# Altium integrated library con-amp-te.IntLib: 7 symbols
Pins are listed as number, name and electrical type; pins without a type are passive.

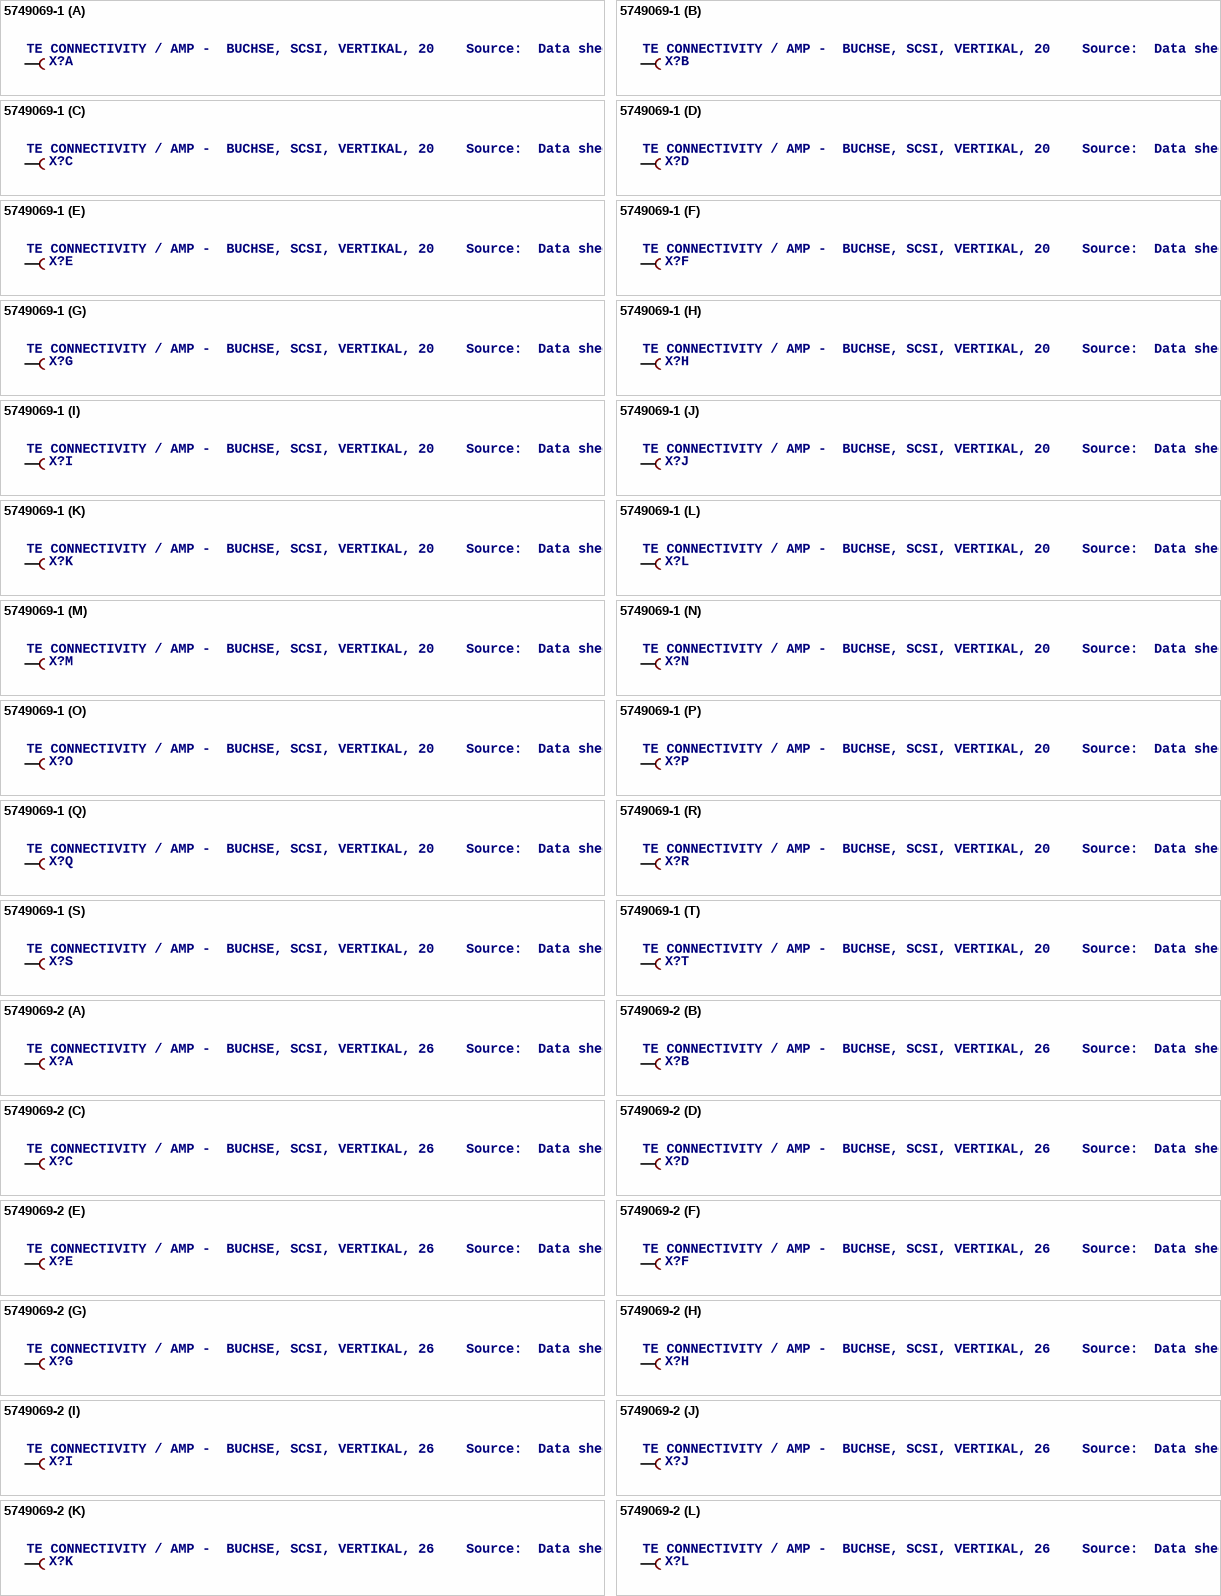
[diagram p0: symbols 5749069-1 to 5749069-2]

## 5749069-1
designator X?, comment TE CONNECTIVITY / AMP -  BUCHSE, SCSI, VERTIKAL, 20    Source:  Data sheet
footprint 5749069-1
part A pins: 1 F
part B pins: 2 F
part C pins: 3 F
part D pins: 4 F
part E pins: 5 F
part F pins: 6 F
part G pins: 7 F
part H pins: 8 F
part I pins: 9 F
part J pins: 10 F
part K pins: 11 F
part L pins: 12 F
part M pins: 13 F
part N pins: 14 F
part O pins: 15 F
part P pins: 16 F
part Q pins: 17 F
part R pins: 18 F
part S pins: 19 F
part T pins: 20 F

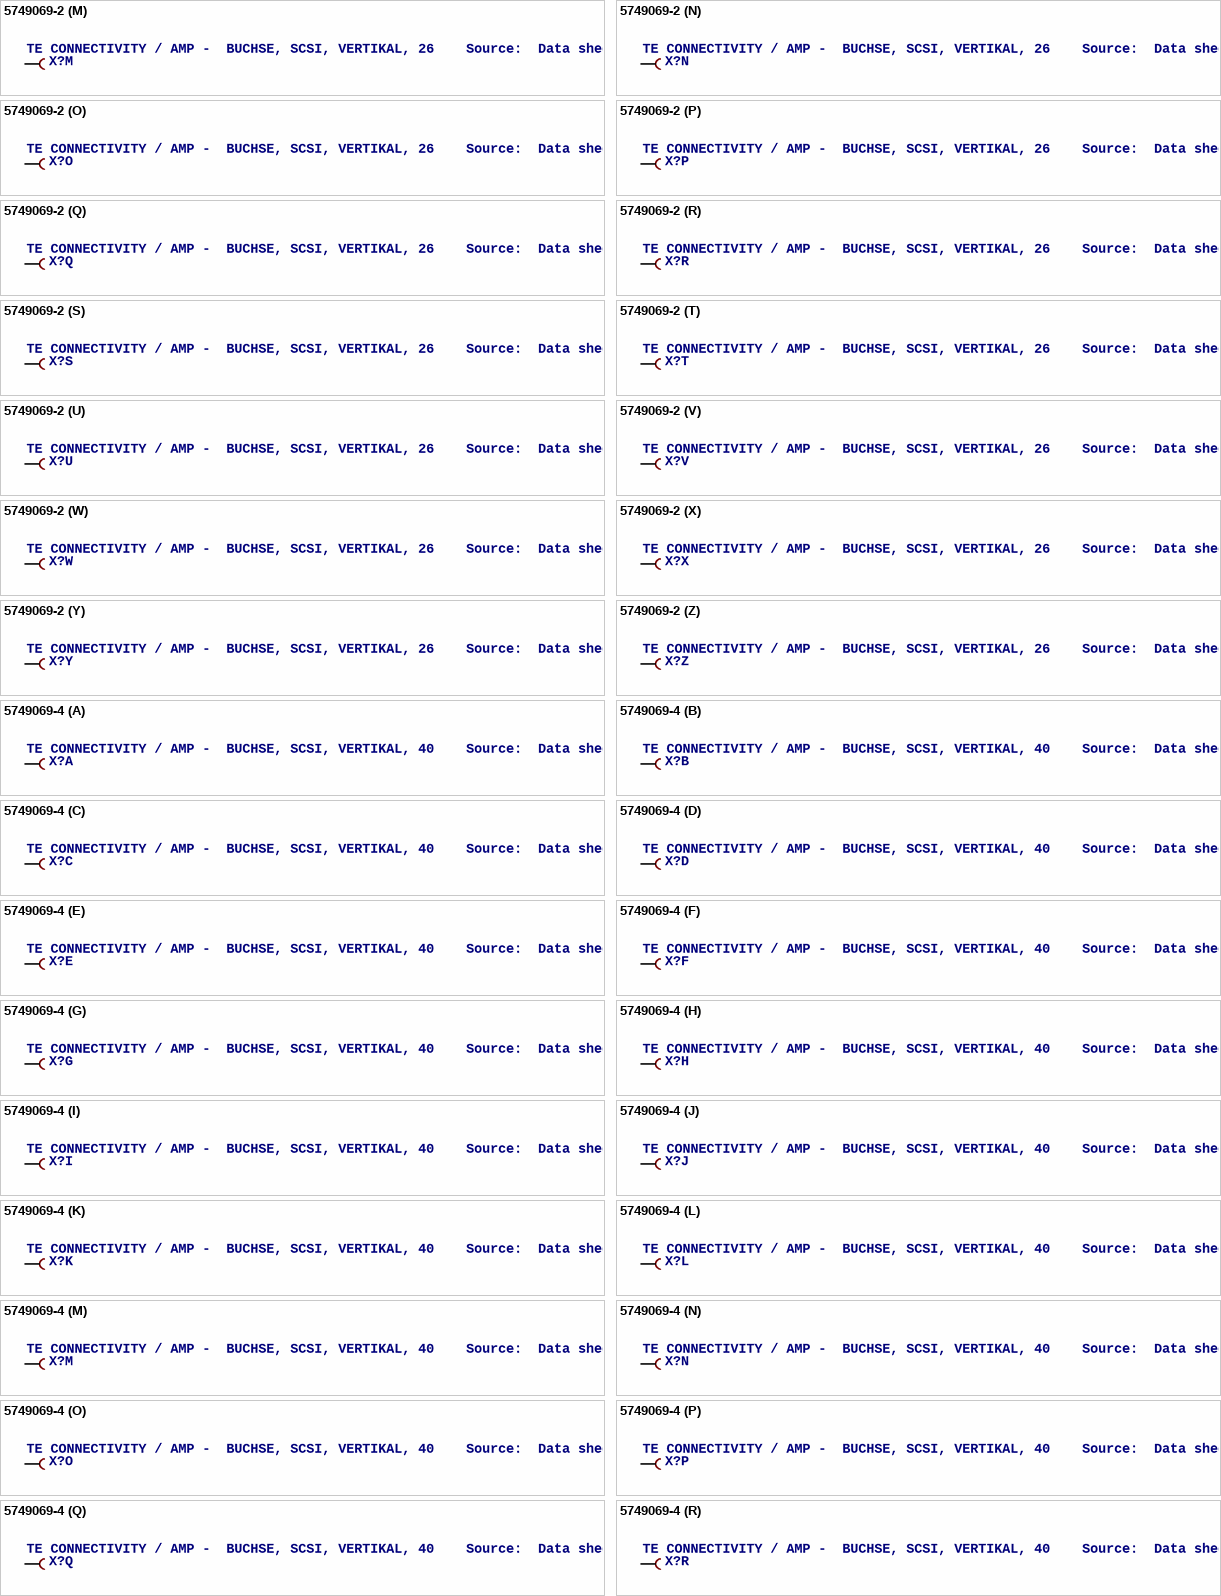
[diagram p1: symbols 5749069-2 to 5749069-4]

## 5749069-2
designator X?, comment TE CONNECTIVITY / AMP -  BUCHSE, SCSI, VERTIKAL, 26    Source:  Data sheet
footprint 5749069-2
part A pins: 1 F
part B pins: 2 F
part C pins: 3 F
part D pins: 4 F
part E pins: 5 F
part F pins: 6 F
part G pins: 7 F
part H pins: 8 F
part I pins: 9 F
part J pins: 10 F
part K pins: 11 F
part L pins: 12 F
part M pins: 13 F
part N pins: 14 F
part O pins: 15 F
part P pins: 16 F
part Q pins: 17 F
part R pins: 18 F
part S pins: 19 F
part T pins: 20 F
part U pins: 21 F
part V pins: 22 F
part W pins: 23 F
part X pins: 24 F
part Y pins: 25 F
part Z pins: 26 F

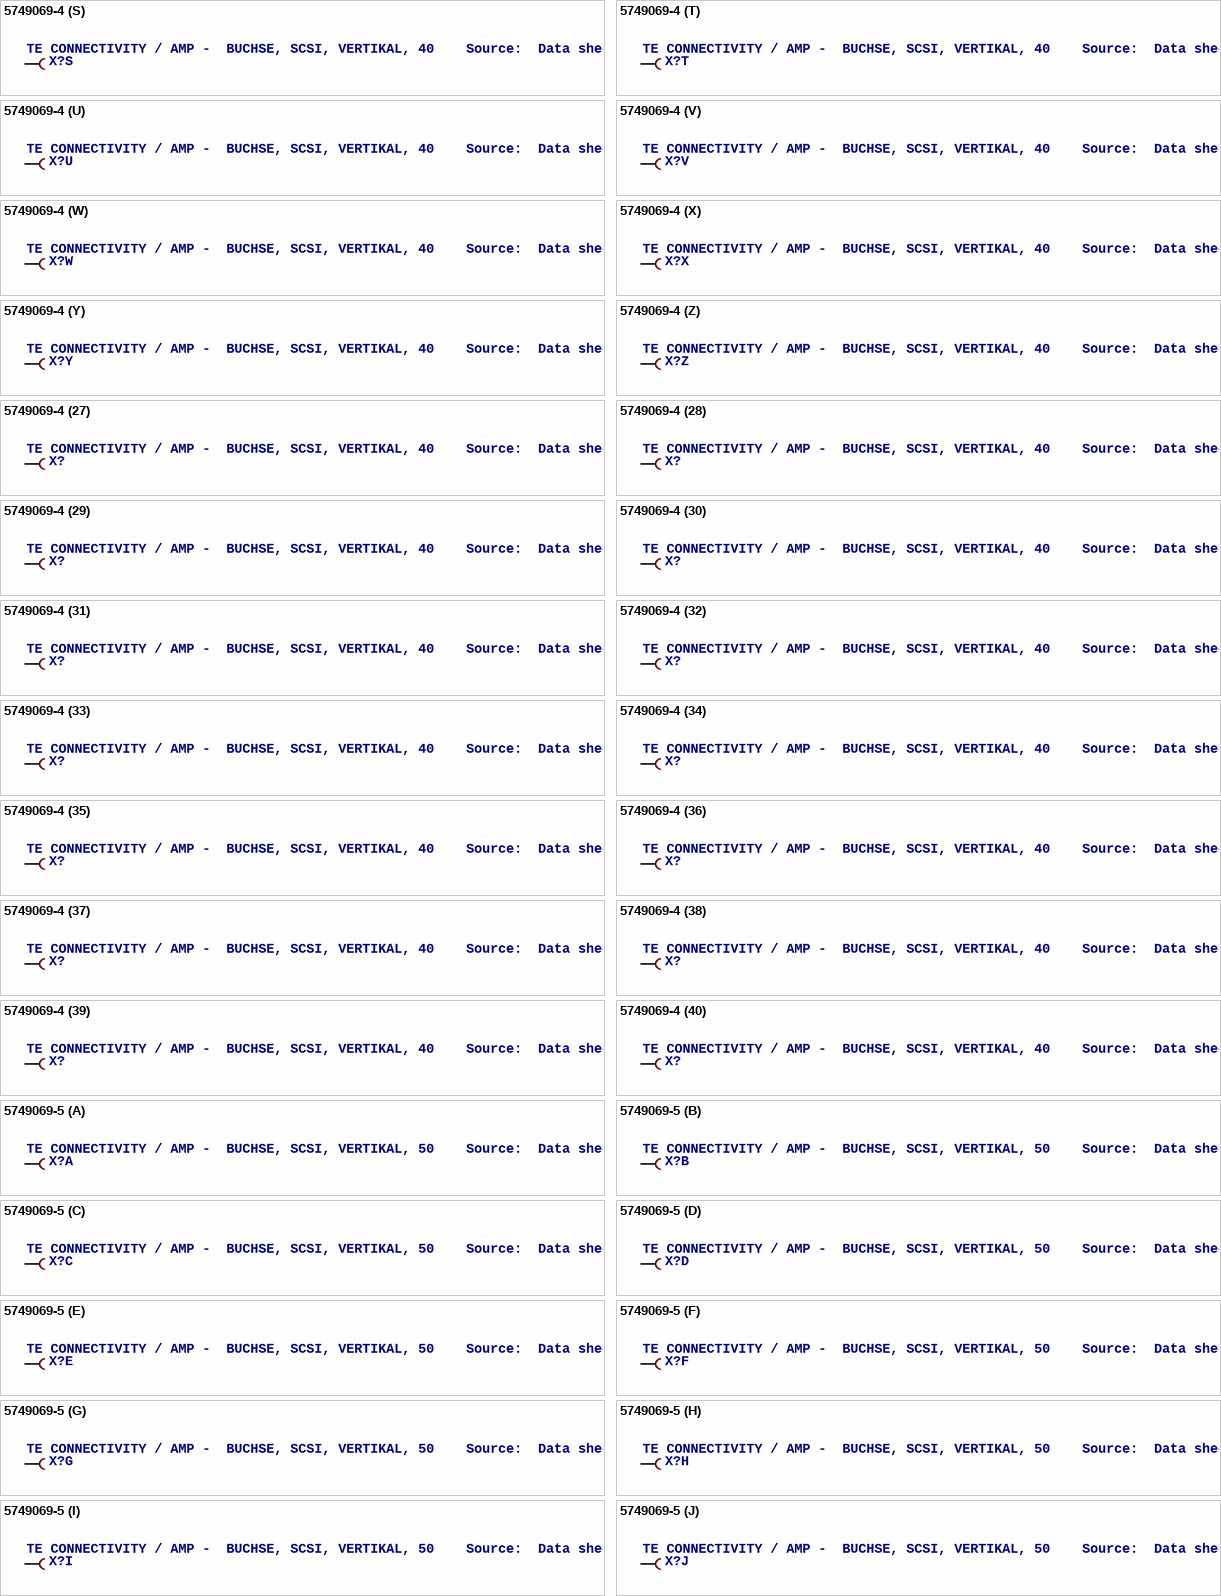
[diagram p2: symbols 5749069-4 to 5749069-5]

## 5749069-4
designator X?, comment TE CONNECTIVITY / AMP -  BUCHSE, SCSI, VERTIKAL, 40    Source:  Data sheet
footprint 5749069-4
part A pins: 1 F
part B pins: 2 F
part C pins: 3 F
part D pins: 4 F
part E pins: 5 F
part F pins: 6 F
part G pins: 7 F
part H pins: 8 F
part I pins: 9 F
part J pins: 10 F
part K pins: 11 F
part L pins: 12 F
part M pins: 13 F
part N pins: 14 F
part O pins: 15 F
part P pins: 16 F
part Q pins: 17 F
part R pins: 18 F
part S pins: 19 F
part T pins: 20 F
part U pins: 21 F
part V pins: 22 F
part W pins: 23 F
part X pins: 24 F
part Y pins: 25 F
part Z pins: 26 F
part 27 pins: 27 F
part 28 pins: 28 F
part 29 pins: 29 F
part 30 pins: 30 F
part 31 pins: 31 F
part 32 pins: 32 F
part 33 pins: 33 F
part 34 pins: 34 F
part 35 pins: 35 F
part 36 pins: 36 F
part 37 pins: 37 F
part 38 pins: 38 F
part 39 pins: 39 F
part 40 pins: 40 F

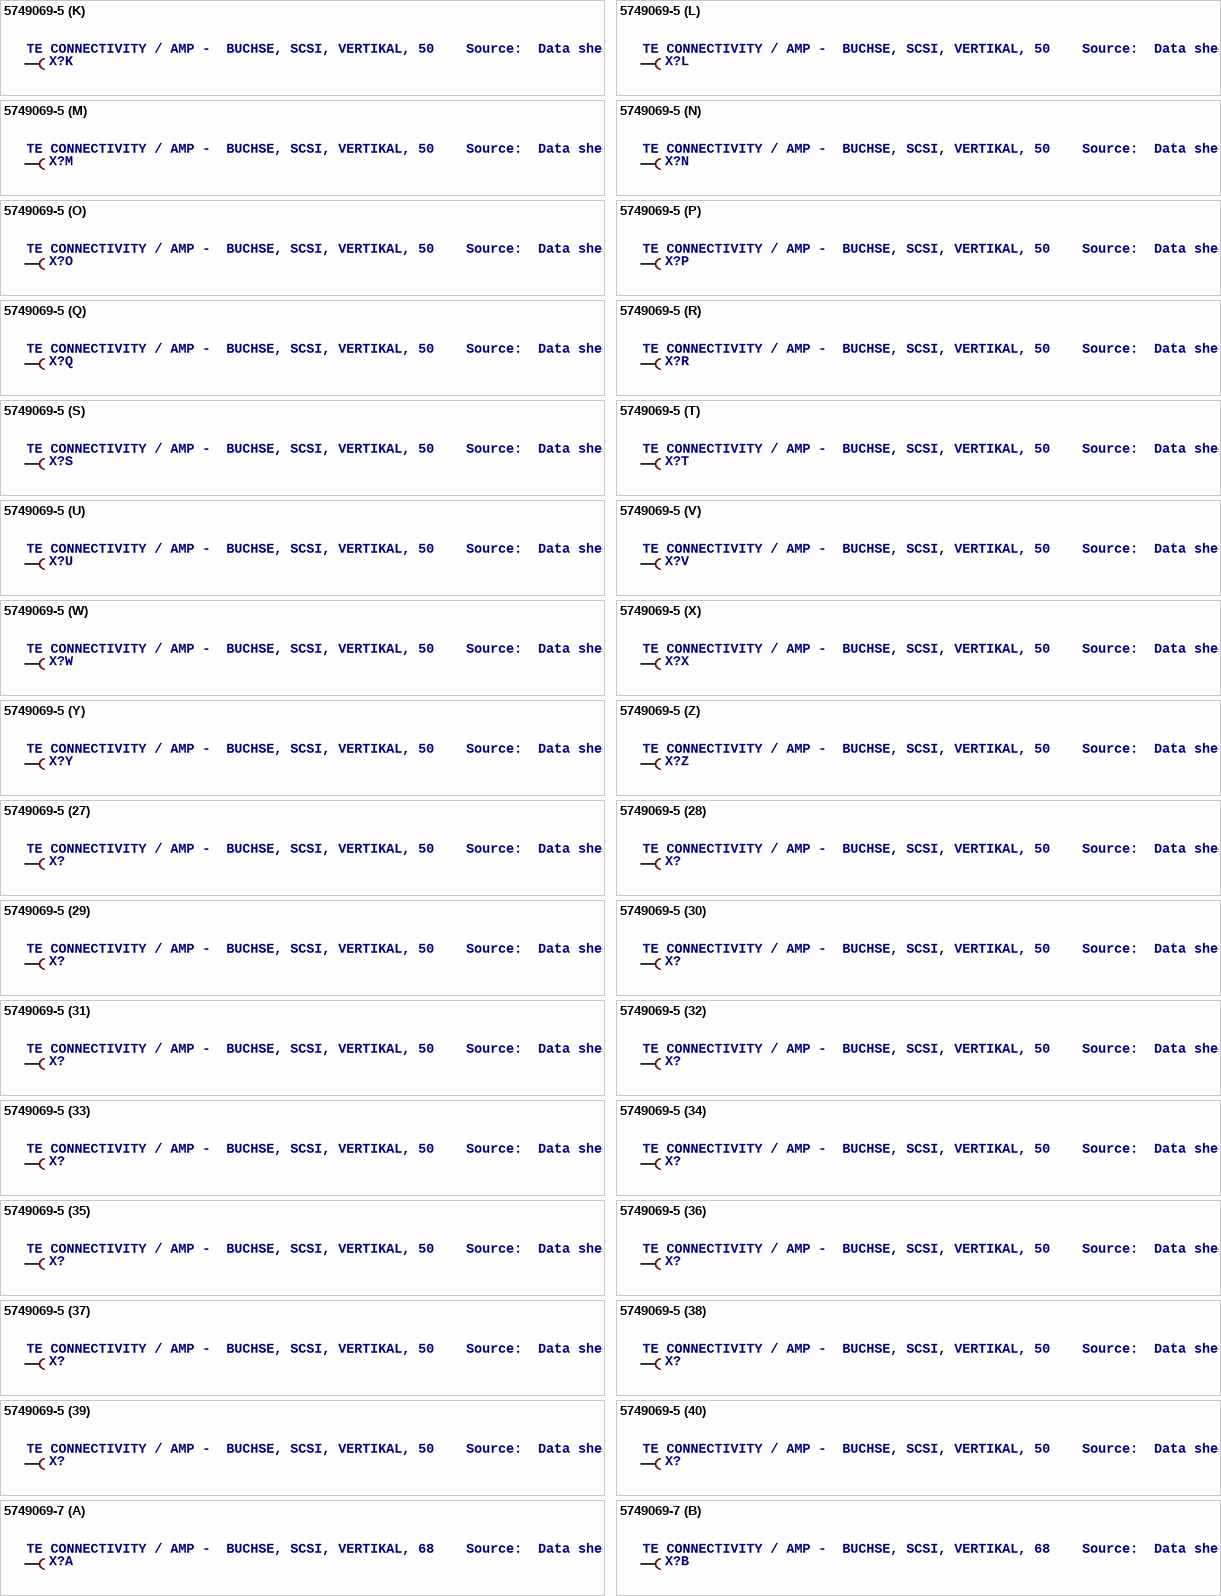
[diagram p3: symbols 5749069-5 to 5749069-7]

## 5749069-5
designator X?, comment TE CONNECTIVITY / AMP -  BUCHSE, SCSI, VERTIKAL, 50    Source:  Data sheet
footprint 5749069-5
part A pins: 1 F
part B pins: 2 F
part C pins: 3 F
part D pins: 4 F
part E pins: 5 F
part F pins: 6 F
part G pins: 7 F
part H pins: 8 F
part I pins: 9 F
part J pins: 10 F
part K pins: 11 F
part L pins: 12 F
part M pins: 13 F
part N pins: 14 F
part O pins: 15 F
part P pins: 16 F
part Q pins: 17 F
part R pins: 18 F
part S pins: 19 F
part T pins: 20 F
part U pins: 21 F
part V pins: 22 F
part W pins: 23 F
part X pins: 24 F
part Y pins: 25 F
part Z pins: 26 F
part 27 pins: 27 F
part 28 pins: 28 F
part 29 pins: 29 F
part 30 pins: 30 F
part 31 pins: 31 F
part 32 pins: 32 F
part 33 pins: 33 F
part 34 pins: 34 F
part 35 pins: 35 F
part 36 pins: 36 F
part 37 pins: 37 F
part 38 pins: 38 F
part 39 pins: 39 F
part 40 pins: 40 F
part 41 pins: 41 F
part 42 pins: 42 F
part 43 pins: 43 F
part 44 pins: 44 F
part 45 pins: 45 F
part 46 pins: 46 F
part 47 pins: 47 F
part 48 pins: 48 F
part 49 pins: 49 F
part 50 pins: 50 F

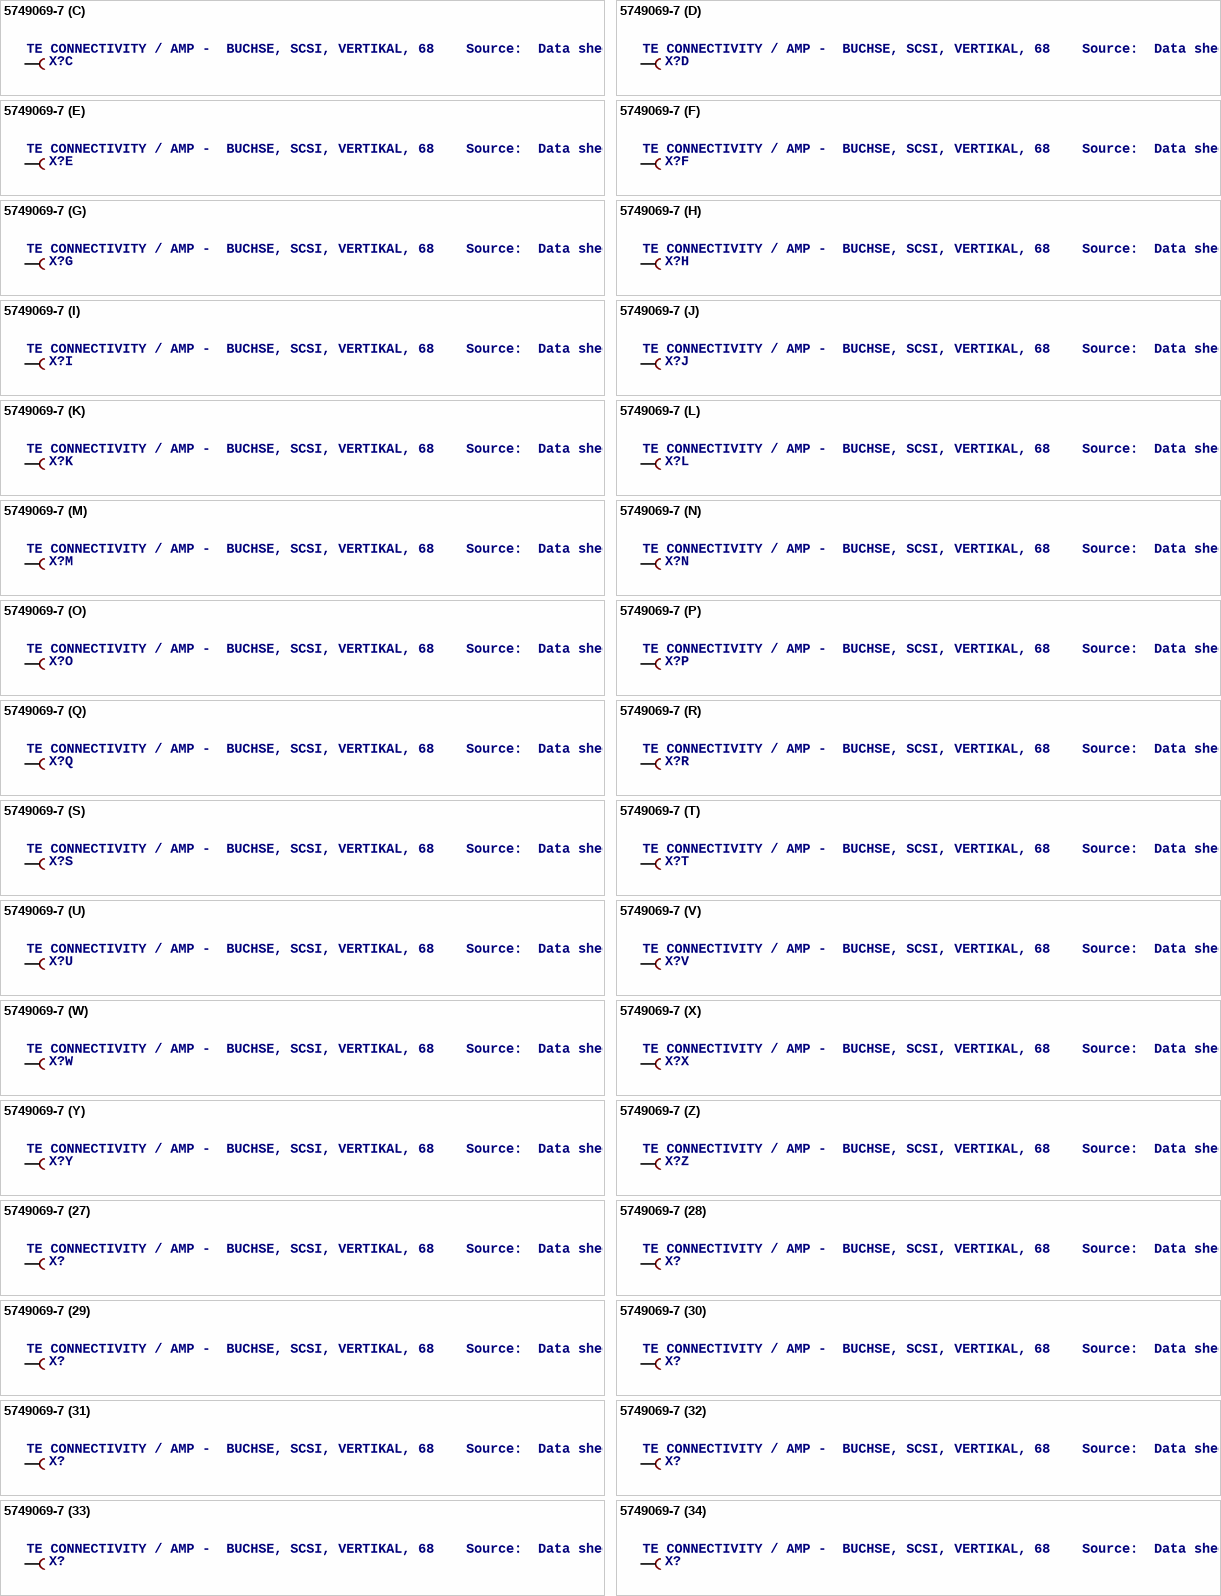
[diagram p4: symbol 5749069-7]

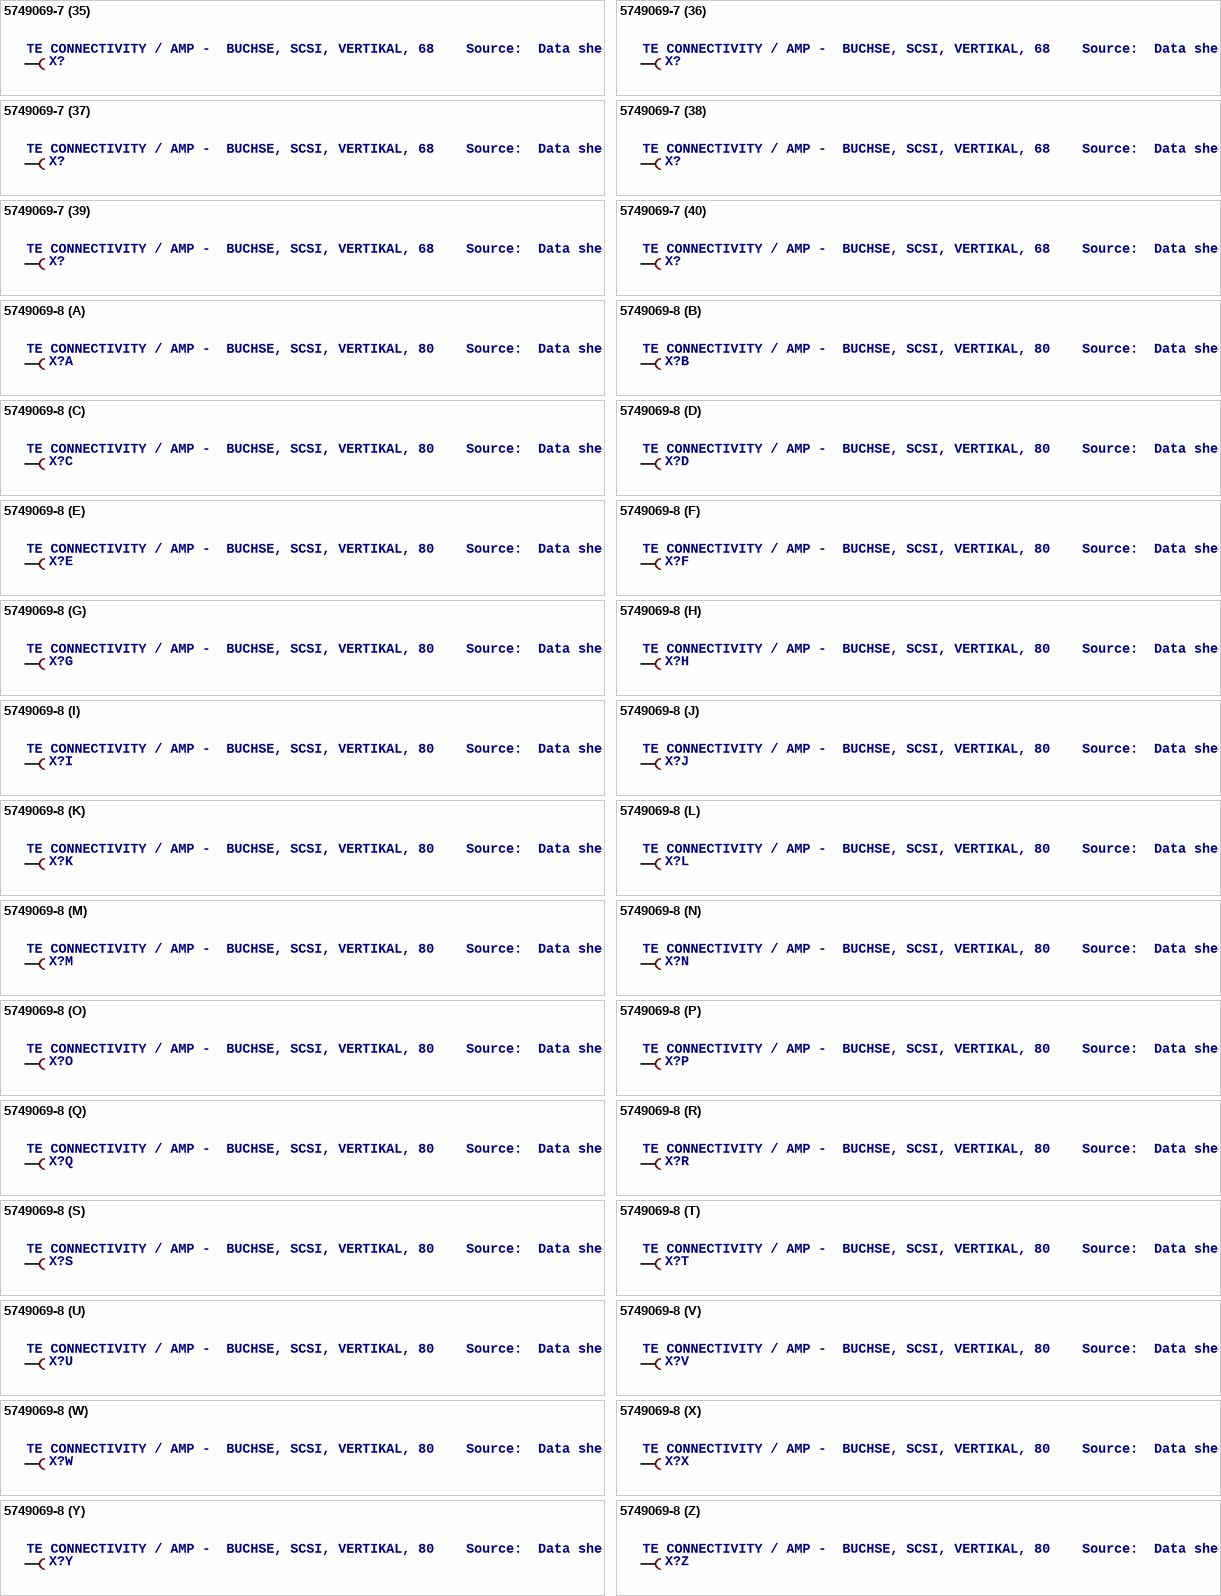
[diagram p5: symbols 5749069-7 to 5749069-8]

## 5749069-7
designator X?, comment TE CONNECTIVITY / AMP -  BUCHSE, SCSI, VERTIKAL, 68    Source:  Data sheet
footprint 5749069-7
part A pins: 1 F
part B pins: 2 F
part C pins: 3 F
part D pins: 4 F
part E pins: 5 F
part F pins: 6 F
part G pins: 7 F
part H pins: 8 F
part I pins: 9 F
part J pins: 10 F
part K pins: 11 F
part L pins: 12 F
part M pins: 13 F
part N pins: 14 F
part O pins: 15 F
part P pins: 16 F
part Q pins: 17 F
part R pins: 18 F
part S pins: 19 F
part T pins: 20 F
part U pins: 21 F
part V pins: 22 F
part W pins: 23 F
part X pins: 24 F
part Y pins: 25 F
part Z pins: 26 F
part 27 pins: 27 F
part 28 pins: 28 F
part 29 pins: 29 F
part 30 pins: 30 F
part 31 pins: 31 F
part 32 pins: 32 F
part 33 pins: 33 F
part 34 pins: 34 F
part 35 pins: 35 F
part 36 pins: 36 F
part 37 pins: 37 F
part 38 pins: 38 F
part 39 pins: 39 F
part 40 pins: 40 F
part 41 pins: 41 F
part 42 pins: 42 F
part 43 pins: 43 F
part 44 pins: 44 F
part 45 pins: 45 F
part 46 pins: 46 F
part 47 pins: 47 F
part 48 pins: 48 F
part 49 pins: 49 F
part 50 pins: 50 F
part 51 pins: 51 F
part 52 pins: 52 F
part 53 pins: 53 F
part 54 pins: 54 F
part 55 pins: 55 F
part 56 pins: 56 F
part 57 pins: 57 F
part 58 pins: 58 F
part 59 pins: 59 F
part 60 pins: 60 F
part 61 pins: 61 F
part 62 pins: 62 F
part 63 pins: 63 F
part 64 pins: 64 F
part 65 pins: 65 F
part 66 pins: 66 F
part 67 pins: 67 F
part 68 pins: 68 F

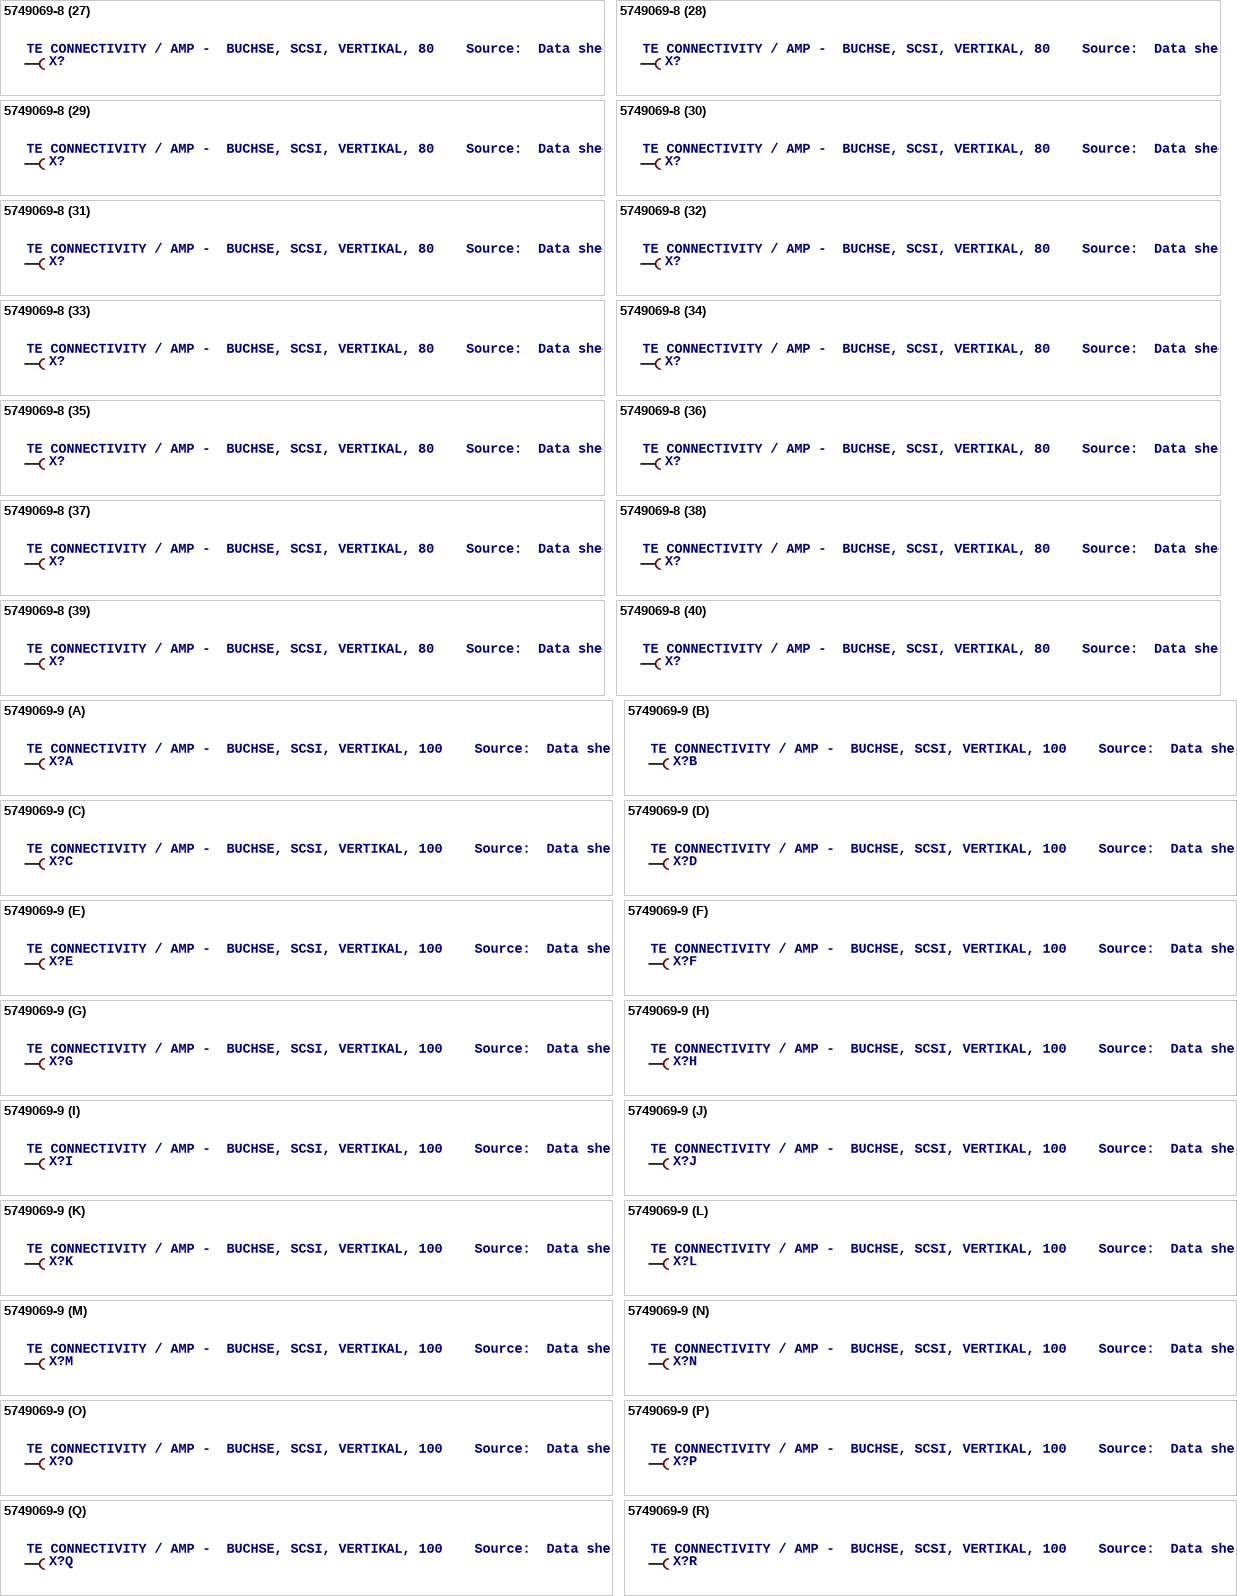
[diagram p6: symbols 5749069-8 to 5749069-9]

## 5749069-8
designator X?, comment TE CONNECTIVITY / AMP -  BUCHSE, SCSI, VERTIKAL, 80    Source:  Data sheet
footprint 5749069-8
part A pins: 1 F
part B pins: 2 F
part C pins: 3 F
part D pins: 4 F
part E pins: 5 F
part F pins: 6 F
part G pins: 7 F
part H pins: 8 F
part I pins: 9 F
part J pins: 10 F
part K pins: 11 F
part L pins: 12 F
part M pins: 13 F
part N pins: 14 F
part O pins: 15 F
part P pins: 16 F
part Q pins: 17 F
part R pins: 18 F
part S pins: 19 F
part T pins: 20 F
part U pins: 21 F
part V pins: 22 F
part W pins: 23 F
part X pins: 24 F
part Y pins: 25 F
part Z pins: 26 F
part 27 pins: 27 F
part 28 pins: 28 F
part 29 pins: 29 F
part 30 pins: 30 F
part 31 pins: 31 F
part 32 pins: 32 F
part 33 pins: 33 F
part 34 pins: 34 F
part 35 pins: 35 F
part 36 pins: 36 F
part 37 pins: 37 F
part 38 pins: 38 F
part 39 pins: 39 F
part 40 pins: 40 F
part 41 pins: 41 F
part 42 pins: 42 F
part 43 pins: 43 F
part 44 pins: 44 F
part 45 pins: 45 F
part 46 pins: 46 F
part 47 pins: 47 F
part 48 pins: 48 F
part 49 pins: 49 F
part 50 pins: 50 F
part 51 pins: 51 F
part 52 pins: 52 F
part 53 pins: 53 F
part 54 pins: 54 F
part 55 pins: 55 F
part 56 pins: 56 F
part 57 pins: 57 F
part 58 pins: 58 F
part 59 pins: 59 F
part 60 pins: 60 F
part 61 pins: 61 F
part 62 pins: 62 F
part 63 pins: 63 F
part 64 pins: 64 F
part 65 pins: 65 F
part 66 pins: 66 F
part 67 pins: 67 F
part 68 pins: 68 F
part 69 pins: 69 F
part 70 pins: 70 F
part 71 pins: 71 F
part 72 pins: 72 F
part 73 pins: 73 F
part 74 pins: 74 F
part 75 pins: 75 F
part 76 pins: 76 F
part 77 pins: 77 F
part 78 pins: 78 F
part 79 pins: 79 F
part 80 pins: 80 F

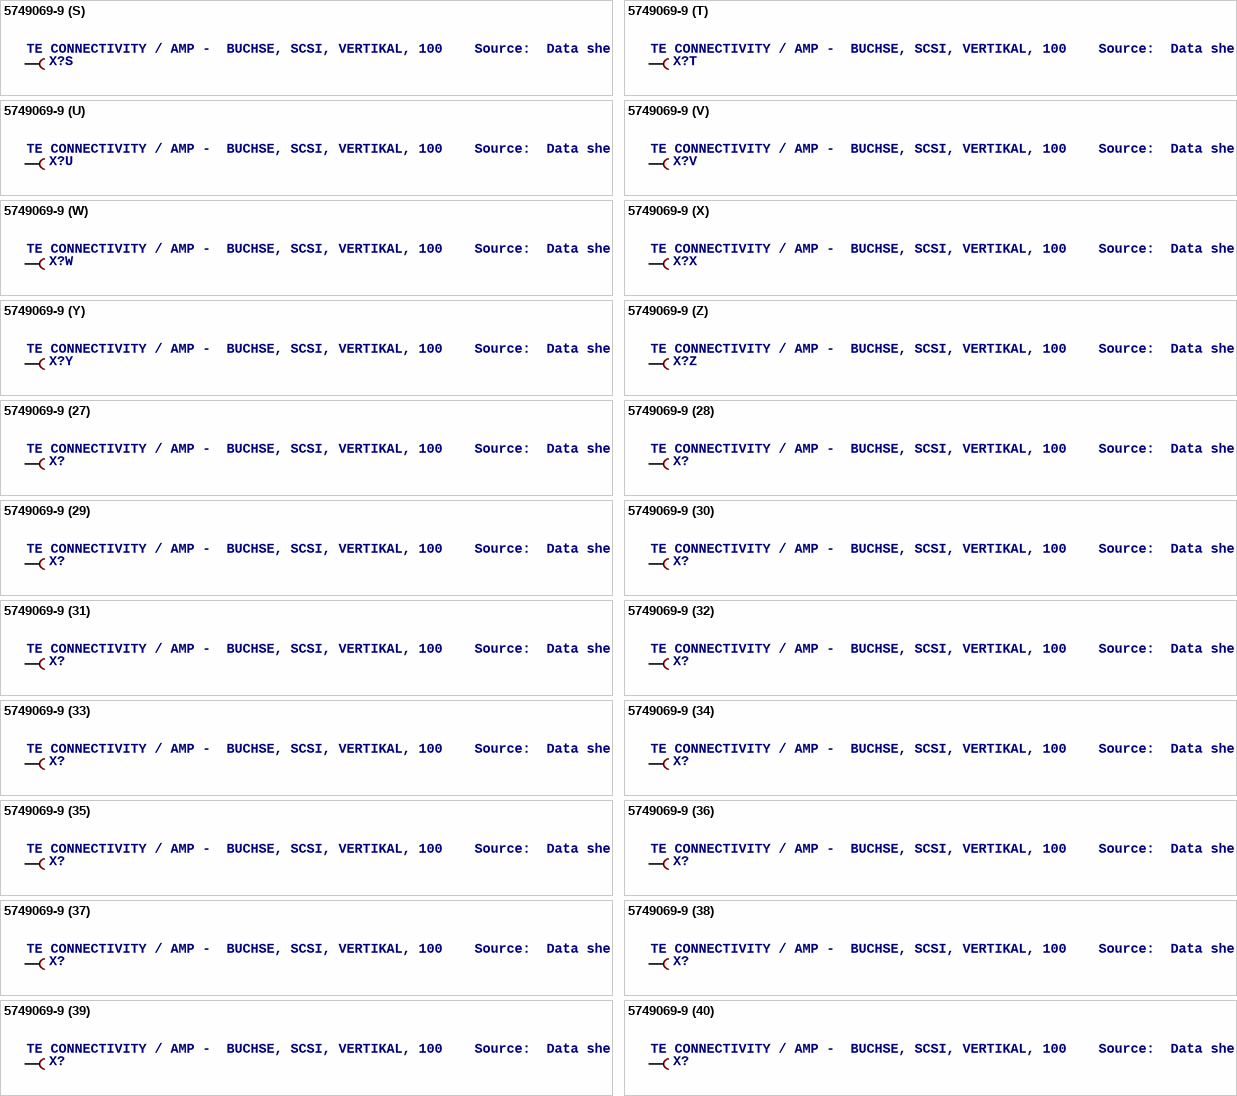
[diagram p7: symbol 5749069-9]

## 5749069-9
designator X?, comment TE CONNECTIVITY / AMP -  BUCHSE, SCSI, VERTIKAL, 100    Source:  Data sheet
footprint 5749069-9
part A pins: 1 F
part B pins: 2 F
part C pins: 3 F
part D pins: 4 F
part E pins: 5 F
part F pins: 6 F
part G pins: 7 F
part H pins: 8 F
part I pins: 9 F
part J pins: 10 F
part K pins: 11 F
part L pins: 12 F
part M pins: 13 F
part N pins: 14 F
part O pins: 15 F
part P pins: 16 F
part Q pins: 17 F
part R pins: 18 F
part S pins: 19 F
part T pins: 20 F
part U pins: 21 F
part V pins: 22 F
part W pins: 23 F
part X pins: 24 F
part Y pins: 25 F
part Z pins: 26 F
part 27 pins: 27 F
part 28 pins: 28 F
part 29 pins: 29 F
part 30 pins: 30 F
part 31 pins: 31 F
part 32 pins: 32 F
part 33 pins: 33 F
part 34 pins: 34 F
part 35 pins: 35 F
part 36 pins: 36 F
part 37 pins: 37 F
part 38 pins: 38 F
part 39 pins: 39 F
part 40 pins: 40 F
part 41 pins: 41 F
part 42 pins: 42 F
part 43 pins: 43 F
part 44 pins: 44 F
part 45 pins: 45 F
part 46 pins: 46 F
part 47 pins: 47 F
part 48 pins: 48 F
part 49 pins: 49 F
part 50 pins: 50 F
part 51 pins: 51 F
part 52 pins: 52 F
part 53 pins: 53 F
part 54 pins: 54 F
part 55 pins: 55 F
part 56 pins: 56 F
part 57 pins: 57 F
part 58 pins: 58 F
part 59 pins: 59 F
part 60 pins: 60 F
part 61 pins: 61 F
part 62 pins: 62 F
part 63 pins: 63 F
part 64 pins: 64 F
part 65 pins: 65 F
part 66 pins: 66 F
part 67 pins: 67 F
part 68 pins: 68 F
part 69 pins: 69 F
part 70 pins: 70 F
part 71 pins: 71 F
part 72 pins: 72 F
part 73 pins: 73 F
part 74 pins: 74 F
part 75 pins: 75 F
part 76 pins: 76 F
part 77 pins: 77 F
part 78 pins: 78 F
part 79 pins: 79 F
part 80 pins: 80 F
part 81 pins: 81 F
part 82 pins: 82 F
part 83 pins: 83 F
part 84 pins: 84 F
part 85 pins: 85 F
part 86 pins: 86 F
part 87 pins: 87 F
part 88 pins: 88 F
part 89 pins: 89 F
part 90 pins: 90 F
part 91 pins: 91 F
part 92 pins: 92 F
part 93 pins: 93 F
part 94 pins: 94 F
part 95 pins: 95 F
part 96 pins: 96 F
part 97 pins: 97 F
part 98 pins: 98 F
part 99 pins: 99 F
part 100 pins: 100 F